# EAGLE library part LM358ADT (library lm358ad)
Low-power dual operational amplifiers,SO-8
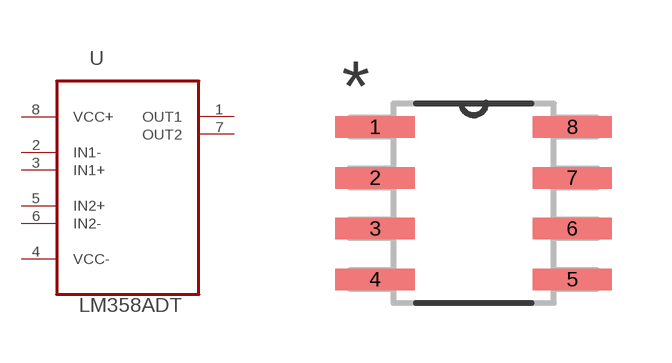
[diagram p0: symbol with the pads of SOIC127P600X175-8N; footprint SOIC127P600X175-8N]

Designator prefix U

## LM358ADT (MPN: LM358ADT; OC_FARNELL: 2253407; OC_NEWARK: 89K0706; PACKAGE: SO-8; SUPPLIER: STMICROELECTRONICS)  [SOIC127P600X175-8N]
1  OUT1  out
2  IN1-  in
3  IN1+  in
4  VCC-  pwr
5  IN2+  in
6  IN2-  in
7  OUT2  out
8  VCC+  pwr

## Footprint SOIC127P600X175-8N (pad centres in mm)
smd 1.981 x 0.533: 1 -2.464,1.905; 2 -2.464,0.635; 3 -2.464,-0.635; 4 -2.464,-1.905; 5 2.464,-1.905; 6 2.464,-0.635; 7 2.464,0.635; 8 2.464,1.905